# Altium footprint library PC110.PcbLib: 67 footprints (part 2 of 5)
Each footprint in its own frame and in the unit in brackets; x right, y up, seen from the top. Pads: shape width x height; smd on the part's side, far side on the other; paste and mask are expansions set on the pad; w line width, h text height; cw(c..) or ccw(c..) is an arc to the next point about the centre after c.
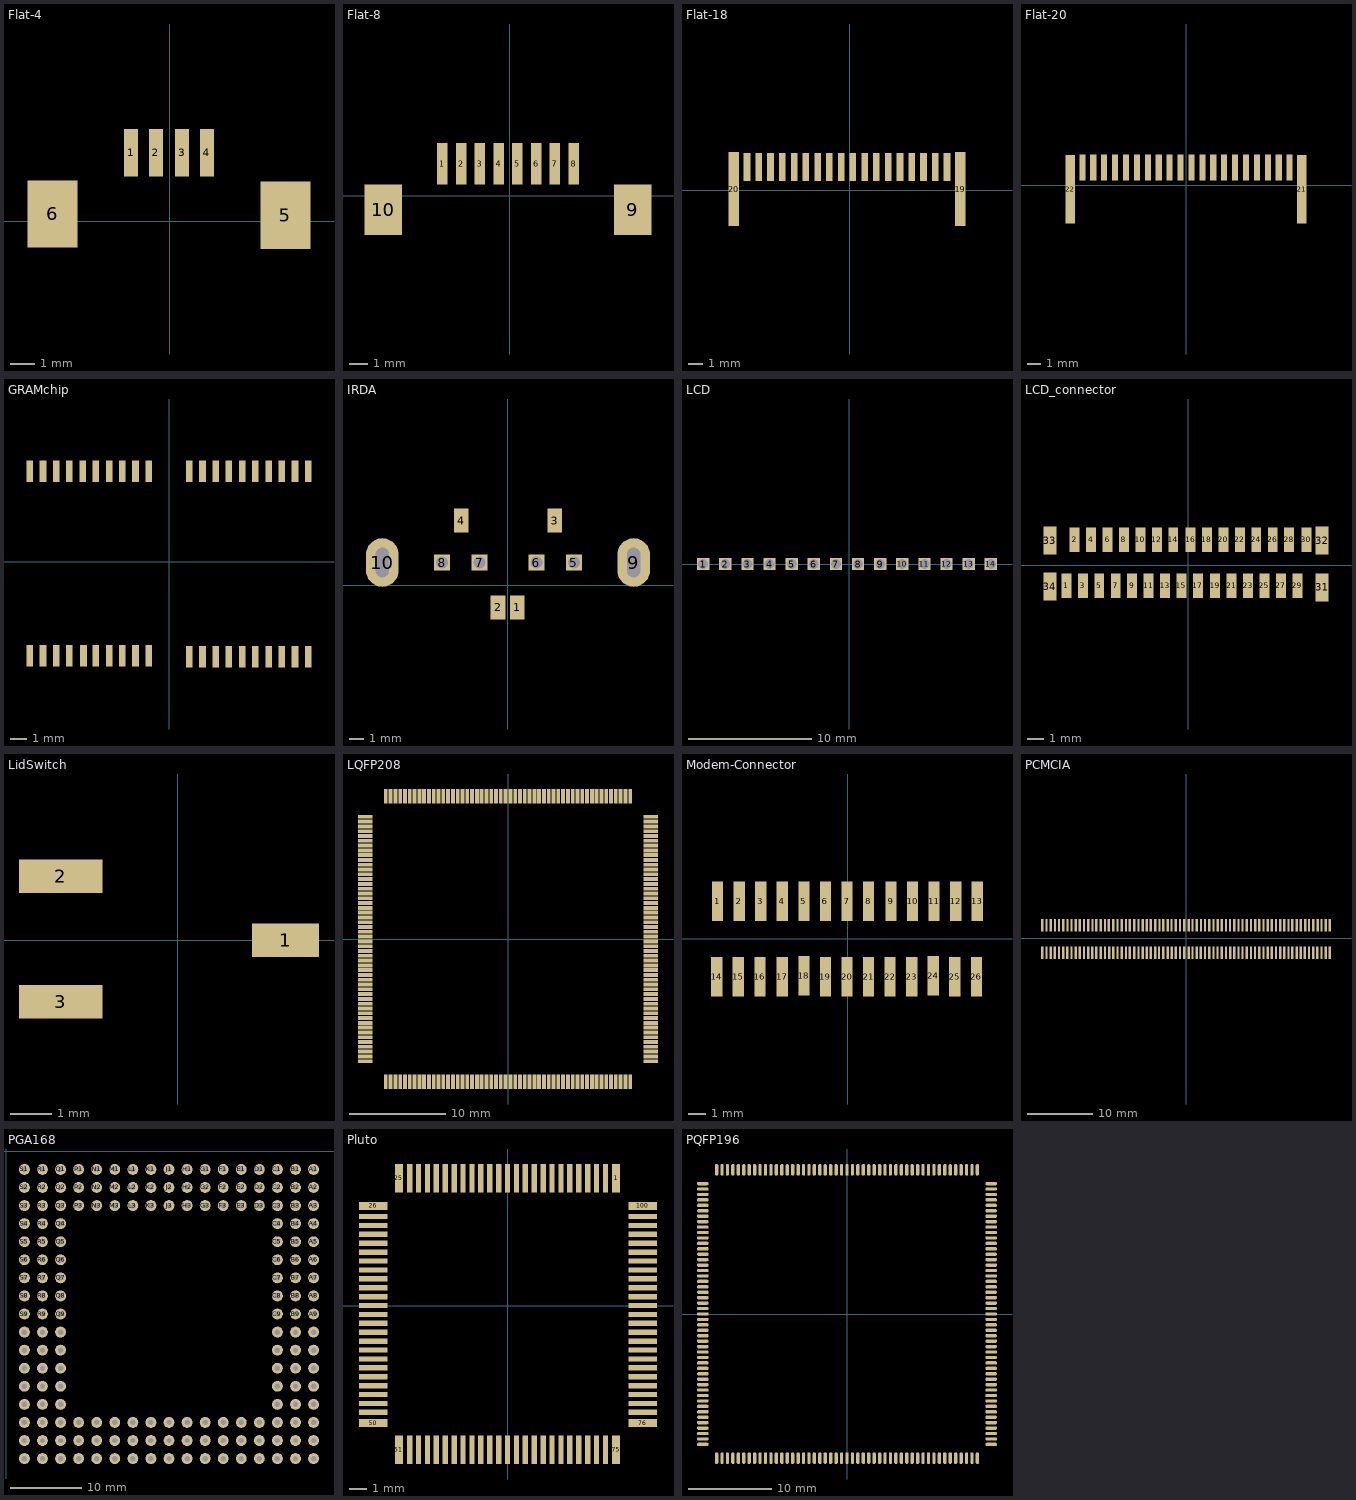
[diagram p1: the footprints below, top view; thin cyan lines are the x and y axes]

## Flat-4 [mm]
pads (6):
  rect 0.55x1.9 smd: 1(-1.55,2.75) 2(-0.55,2.75) 3(0.5,2.75) 4(1.5,2.75)
  rect 2x2.7 smd: 5(4.65,0.25) 6(-4.7,0.3)

## Flat-8 [mm]
pads (10):
  rect 0.55x2.2 smd: 1(-3.6,1.7) 2(-2.6,1.7) 3(-1.6,1.7) 4(-0.6,1.7) 5(0.4,1.7) 6(1.4,1.7) 7(2.4,1.7) 8(3.4,1.7)
  rect 2x2.7 smd: 9(6.55,-0.75) 10(-6.75,-0.75)

## Flat-18 [mm]
pads (20):
  rect 0.45x1.9 smd: 1(-7,1.6) 2(-6.2,1.6) 3(-5.4,1.6) 4(-4.6,1.6) 5(-3.8,1.6) 6(-3,1.6) 7(-2.2,1.6) 8(-1.4,1.6) 9(-0.6,1.6) 10(0.2,1.6) 11(1,1.6) 12(1.8,1.6) 13(2.6,1.6) 14(3.4,1.6) 15(4.2,1.6) 16(5,1.6) 17(5.8,1.6) 18(6.6,1.6)
  rect 0.7x5 smd: 19(7.5,0.1) 20(-7.9,0.1)

## Flat-20 [mm]
pads (22):
  rect 0.45x1.9 smd: 1(-7.6,1.3) 2(-6.8,1.3) 3(-6,1.3) 4(-5.2,1.3) 5(-4.4,1.3) 6(-3.6,1.3) 7(-2.8,1.3) 8(-2,1.3) 9(-1.2,1.3) 10(-0.4,1.3) 11(0.4,1.3) 12(1.2,1.3) 13(2,1.3) 14(2.8,1.3) 15(3.6,1.3) 16(4.4,1.3) 17(5.2,1.3) 18(6,1.3) 19(6.8,1.3) 20(7.6,1.3)
  rect 0.7x5 smd: 21(8.5,-0.3) 22(-8.5,-0.3)

## GRAMchip [mm]
pads (40):
  rect 0.4x1.3 smd: 1(8.4,5.45) 2(7.6,5.45) 3(6.8,5.45) 4(6,5.45) 5(5.2,5.45) 6(4.4,5.45) 7(3.6,5.45) 8(2.8,5.45) 9(2,5.45) 10(1.2,5.45) 11(-1.25,5.45) 12(-2.05,5.45) 13(-2.85,5.45) 14(-3.65,5.45) 15(-4.45,5.45) 16(-5.25,5.45) 17(-6.05,5.45) 18(-6.85,5.45) 19(-7.65,5.45) 20(-8.45,5.45) 21(-8.45,-5.7) 22(-7.65,-5.7) 23(-6.85,-5.7) 24(-6.05,-5.7) 25(-5.2,-5.7) 26(-4.45,-5.7) 27(-3.65,-5.7) 28(-2.85,-5.7) 29(-2.05,-5.7) 30(-1.25,-5.7) 31(1.2,-5.75) 32(2,-5.75) 33(2.8,-5.75) 34(3.6,-5.75) 35(4.4,-5.75) 36(5.2,-5.75) 37(6,-5.75) 38(6.8,-5.75) 39(7.6,-5.75) 40(8.4,-5.75)

## IRDA [mm]
pads (10):
  rect 1x1.6 smd: 1(0.65,-1.5) 2(-0.65,-1.5) 3(3.2,4.4) 4(-3.15,4.4)
  rect 1.1x1.1 hole 0.8: 5(4.5,1.55) 6(1.95,1.55) 7(-1.9,1.55) 8(-4.45,1.55)
  rrect100% 2.2x3.3 hole 0.9 slot 2 at 90 deg: 9(8.55,1.55) 10(-8.5,1.55)

## LCD [mm]
pads (14):
  rect 1x1 hole 0.8: 1(-11.9,0) 2(-10.1,0) 3(-8.3,0) 4(-6.5,0) 5(-4.7,0) 6(-2.9,0) 7(-1.1,0) 8(0.7,0) 9(2.5,0) 10(4.3,0) 11(6.1,0) 12(7.9,0) 13(9.7,0) 14(11.5,0)

## LCD_connector [mm]
pads (34):
  rect 0.6x1.5 smd: 1(-7.4,-1.25) 2(-6.9,1.55) 3(-6.4,-1.25) 4(-5.9,1.55) 5(-5.4,-1.25) 6(-4.9,1.55) 7(-4.4,-1.25) 8(-3.9,1.55) 9(-3.4,-1.25) 10(-2.9,1.55) 11(-2.4,-1.25) 12(-1.9,1.55) 13(-1.4,-1.25) 14(-0.9,1.55) 15(-0.4,-1.25) 16(0.15,1.55) 17(0.6,-1.25) 18(1.15,1.55) 19(1.65,-1.25) 20(2.15,1.55) 21(2.65,-1.25) 22(3.15,1.55) 23(3.65,-1.25) 24(4.15,1.55) 25(4.65,-1.25) 26(5.15,1.55) 27(5.65,-1.25) 28(6.15,1.55) 29(6.65,-1.25) 30(7.2,1.55)
  rect 0.8x1.7 smd: 31(8.15,-1.35) 32(8.15,1.5) 33(-8.4,1.5) 34(-8.4,-1.3)

## LidSwitch [mm]
pads (3):
  rect 1.6x0.8 smd: 1(2.575,0)
  rect 2x0.8 smd: 2(-2.8,1.525) 3(-2.8,-1.475)

## LOGO [mm]

## LQFP208 [mm]
pads (208):
  rect 1.5x0.4 smd: 1(-14.9,12.75) 2(-14.9,12.25) 3(-14.9,11.75) 4(-14.9,11.25) 5(-14.9,10.75) 6(-14.9,10.25) 7(-14.9,9.75) 8(-14.9,9.25) 9(-14.9,8.75) 10(-14.9,8.25) 11(-14.9,7.75) 12(-14.9,7.25) 13(-14.9,6.75) 14(-14.9,6.25) 15(-14.9,5.75) 16(-14.9,5.25) 17(-14.9,4.75) 18(-14.9,4.25) 19(-14.9,3.75) 20(-14.9,3.25) 21(-14.9,2.75) 22(-14.9,2.25) 23(-14.9,1.75) 24(-14.9,1.25) 25(-14.9,0.75) 26(-14.9,0.25) 27(-14.9,-0.25) 28(-14.9,-0.75) 29(-14.9,-1.25) 30(-14.9,-1.75) 31(-14.9,-2.25) 32(-14.9,-2.75) 33(-14.9,-3.25) 34(-14.9,-3.75) 35(-14.9,-4.25) 36(-14.9,-4.75) 37(-14.9,-5.25) 38(-14.9,-5.75) 39(-14.9,-6.25) 40(-14.9,-6.75) 41(-14.9,-7.25) 42(-14.9,-7.75) 43(-14.9,-8.25) 44(-14.9,-8.75) 45(-14.9,-9.25) 46(-14.9,-9.75) 47(-14.9,-10.25) 48(-14.9,-10.75) 49(-14.9,-11.25) 50(-14.9,-11.75) 51(-14.9,-12.25) 52(-14.9,-12.75) 105(14.9,-12.75) 106(14.9,-12.25) 107(14.9,-11.75) 108(14.9,-11.25) 109(14.9,-10.75) 110(14.9,-10.25) 111(14.9,-9.75) 112(14.9,-9.25) 113(14.9,-8.75) 114(14.9,-8.25) 115(14.9,-7.75) 116(14.9,-7.25) 117(14.9,-6.75) 118(14.9,-6.25) 119(14.9,-5.75) 120(14.9,-5.25) 121(14.9,-4.75) 122(14.9,-4.25) 123(14.9,-3.75) 124(14.9,-3.25) 125(14.9,-2.75) 126(14.9,-2.25) 127(14.9,-1.75) 128(14.9,-1.25) 129(14.9,-0.75) 130(14.9,-0.25) 131(14.9,0.25) 132(14.9,0.75) 133(14.9,1.25) 134(14.9,1.75) 135(14.9,2.25) 136(14.9,2.75) 137(14.9,3.25) 138(14.9,3.75) 139(14.9,4.25) 140(14.9,4.75) 141(14.9,5.25) 142(14.9,5.75) 143(14.9,6.25) 144(14.9,6.75) 145(14.9,7.25) 146(14.9,7.75) 147(14.9,8.25) 148(14.9,8.75) 149(14.9,9.25) 150(14.9,9.75) 151(14.9,10.25) 152(14.9,10.75) 153(14.9,11.25) 154(14.9,11.75) 155(14.9,12.25) 156(14.9,12.75)
  rect 0.4x1.5 smd: 53(-12.75,-14.9) 54(-12.25,-14.9) 55(-11.75,-14.9) 56(-11.25,-14.9) 57(-10.75,-14.9) 58(-10.25,-14.9) 59(-9.75,-14.9) 60(-9.25,-14.9) 61(-8.75,-14.9) 62(-8.25,-14.9) 63(-7.75,-14.9) 64(-7.25,-14.9) 65(-6.75,-14.9) 66(-6.25,-14.9) 67(-5.75,-14.9) 68(-5.25,-14.9) 69(-4.75,-14.9) 70(-4.25,-14.9) 71(-3.75,-14.9) 72(-3.25,-14.9) 73(-2.75,-14.9) 74(-2.25,-14.9) 75(-1.75,-14.9) 76(-1.25,-14.9) 77(-0.75,-14.9) 78(-0.25,-14.9) 79(0.25,-14.9) 80(0.75,-14.9) 81(1.25,-14.9) 82(1.75,-14.9) 83(2.25,-14.9) 84(2.75,-14.9) 85(3.25,-14.9) 86(3.75,-14.9) 87(4.25,-14.9) 88(4.75,-14.9) 89(5.25,-14.9) 90(5.75,-14.9) 91(6.25,-14.9) 92(6.75,-14.9) 93(7.25,-14.9) 94(7.75,-14.9) 95(8.25,-14.9) 96(8.75,-14.9) 97(9.25,-14.9) 98(9.75,-14.9) 99(10.25,-14.9) 100(10.75,-14.9) 101(11.25,-14.9) 102(11.75,-14.9) 103(12.25,-14.9) 104(12.75,-14.9) 157(12.75,14.9) 158(12.25,14.9) 159(11.75,14.9) 160(11.25,14.9) 161(10.75,14.9) 162(10.25,14.9) 163(9.75,14.9) 164(9.25,14.9) 165(8.75,14.9) 166(8.25,14.9) 167(7.75,14.9) 168(7.25,14.9) 169(6.75,14.9) 170(6.25,14.9) 171(5.75,14.9) 172(5.25,14.9) 173(4.75,14.9) 174(4.25,14.9) 175(3.75,14.9) 176(3.25,14.9) 177(2.75,14.9) 178(2.25,14.9) 179(1.75,14.9) 180(1.25,14.9) 181(0.75,14.9) 182(0.25,14.9) 183(-0.25,14.9) 184(-0.75,14.9) 185(-1.25,14.9) 186(-1.75,14.9) 187(-2.25,14.9) 188(-2.75,14.9) 189(-3.25,14.9) 190(-3.75,14.9) 191(-4.25,14.9) 192(-4.75,14.9) 193(-5.25,14.9) 194(-5.75,14.9) 195(-6.25,14.9) 196(-6.75,14.9) 197(-7.25,14.9) 198(-7.75,14.9) 199(-8.25,14.9) 200(-8.75,14.9) 201(-9.25,14.9) 202(-9.75,14.9) 203(-10.25,14.9) 204(-10.75,14.9) 205(-11.25,14.9) 206(-11.75,14.9) 207(-12.25,14.9) 208(-12.75,14.9)

## Modem-Connector [mm]
pads (26):
  rect 0.65x2.286 smd: 1(-7.55,2.15) 2(-6.3,2.15) 3(-5.05,2.15) 4(-3.8,2.15) 5(-2.55,2.15) 6(-1.3,2.15) 7(-0.05,2.15) 8(1.2,2.15) 9(2.5,2.15) 10(3.75,2.15) 11(5,2.15) 12(6.25,2.15) 13(7.5,2.15) 14(-7.6,-2.2) 15(-6.35,-2.2) 16(-5.1,-2.2) 17(-3.8,-2.2) 18(-2.55,-2.15) 19(-1.3,-2.2) 20(-0.05,-2.2) 21(1.2,-2.2) 22(2.45,-2.2) 23(3.7,-2.2) 24(4.95,-2.15) 25(6.2,-2.2) 26(7.45,-2.2)

## PCMCIA [mm]
pads (140):
  rect 0.35x1.9 smd: 1(-21.95,2) 2(-21.3,2) 3(-20.65,2) 4(-20,2) 5(-19.4,2) 6(-18.75,2) 7(-18.1,2) 8(-17.5,2) 9(-16.85,2) 10(-16.25,2) 11(-15.6,2) 12(-14.95,2) 13(-14.3,2) 14(-13.7,2) 15(-13.05,2) 16(-12.4,2) 17(-11.8,2) 18(-11.15,2) 19(-10.5,2) 20(-9.85,2) 21(-9.2,2) 22(-8.6,2) 23(-7.95,2) 24(-7.3,2) 25(-6.65,2) 26(-6.05,2) 27(-5.4,2) 28(-4.75,2) 29(-4.1,2) 30(-3.5,2) 31(-2.85,2) 32(-2.25,2) 33(-1.6,2) 34(-0.95,2) 35(-0.3,2) 36(0.35,2) 37(0.95,2) 38(1.6,2) 39(2.25,2) 40(2.85,2) 41(3.5,2) 42(4.15,2) 43(4.8,2) 44(5.4,2) 45(6.05,2) 46(6.65,2) 47(7.3,2) 48(7.95,2) 49(8.55,2) 50(9.2,2) 51(9.85,2) 52(10.5,2) 53(11.1,2) 54(11.75,2) 55(12.4,2) 56(13,2) 57(13.65,2) 58(14.3,2) 59(14.9,2) 60(15.55,2) 61(16.15,2) 62(16.8,2) 63(17.45,2) 64(18.1,2) 65(18.7,2) 66(19.35,2) 67(20,2) 68(20.6,2) 69(21.25,2) 70(21.85,2) 71(-21.95,-2.25) 72(-21.3,-2.25) 73(-20.65,-2.25) 74(-20.05,-2.25) 75(-19.4,-2.25) 76(-18.75,-2.25) 77(-18.15,-2.25) 78(-17.5,-2.25) 79(-16.85,-2.25) 80(-16.25,-2.25) 81(-15.6,-2.25) 82(-14.95,-2.25) 83(-14.35,-2.25) 84(-13.7,-2.25) 85(-13.05,-2.25) 86(-12.4,-2.25) 87(-11.75,-2.25) 88(-11.15,-2.25) 89(-10.5,-2.25) 90(-9.85,-2.25) 91(-9.2,-2.25) 92(-8.6,-2.25) 93(-7.95,-2.25) 94(-7.3,-2.25) 95(-6.65,-2.25) 96(-6.05,-2.25) 97(-5.4,-2.25) 98(-4.75,-2.25) 99(-4.15,-2.25) 100(-3.5,-2.25) 101(-2.85,-2.25) 102(-2.2,-2.25) 103(-1.6,-2.25) 104(-0.95,-2.25) 105(-0.3,-2.25) 106(0.35,-2.25) 107(0.95,-2.25) 108(1.6,-2.25) 109(2.2,-2.25) 110(2.85,-2.25) 111(3.5,-2.25) 112(4.15,-2.25) 113(4.75,-2.25) 114(5.4,-2.25) 115(6.05,-2.25) 116(6.7,-2.25) 117(7.3,-2.25) 118(7.95,-2.25) 119(8.55,-2.25) 120(9.2,-2.25) 121(9.85,-2.25) 122(10.45,-2.25) 123(11.1,-2.25) 124(11.75,-2.25) 125(12.4,-2.25) 126(13,-2.25) 127(13.65,-2.25) 128(14.3,-2.25) 129(14.9,-2.25) 130(15.55,-2.25) 131(16.15,-2.25) 132(16.8,-2.25) 133(17.45,-2.25) 134(18.05,-2.25) 135(18.7,-2.25) 136(19.35,-2.25) 137(19.95,-2.25) 138(20.6,-2.25) 139(21.25,-2.25) 140(21.85,-2.25)

## PGA168 [mil]
pads (168):
  round 60 hole 30: A1(1700,-100) A2(1700,-200) A3(1700,-300) A4(1700,-400) A5(1700,-500) A6(1700,-600) A7(1700,-700) A8(1700,-800) A9(1700,-900) A10(1700,-1000) A11(1700,-1100) A12(1700,-1200) A13(1700,-1300) A14(1700,-1400) A15(1700,-1500) A16(1700,-1600) A17(1700,-1700) B1(1600,-100) B2(1600,-200) B3(1600,-300) B4(1600,-400) B5(1600,-500) B6(1600,-600) B7(1600,-700) B8(1600,-800) B9(1600,-900) B10(1600,-1000) B11(1600,-1100) B12(1600,-1200) B13(1600,-1300) B14(1600,-1400) B15(1600,-1500) B16(1600,-1600) B17(1600,-1700) C1(1500,-100) C2(1500,-200) C3(1500,-300) C4(1500,-400) C5(1500,-500) C6(1500,-600) C7(1500,-700) C8(1500,-800) C9(1500,-900) C10(1500,-1000) C11(1500,-1100) C12(1500,-1200) C13(1500,-1300) C14(1500,-1400) C15(1500,-1500) C16(1500,-1600) C17(1500,-1700) D1(1400,-100) D2(1400,-200) D3(1400,-300) D15(1400,-1500) D16(1400,-1600) D17(1400,-1700) E1(1300,-100) E2(1300,-200) E3(1300,-300) E15(1300,-1500) E16(1300,-1600) E17(1300,-1700) F1(1200,-100) F2(1200,-200) F3(1200,-300) F15(1200,-1500) F16(1200,-1600) F17(1200,-1700) G1(1100,-100) G2(1100,-200) G3(1100,-300) G15(1100,-1500) G16(1100,-1600) G17(1100,-1700) H1(1000,-100) H2(1000,-200) H3(1000,-300) H15(1000,-1500) H16(1000,-1600) H17(1000,-1700) J1(900,-100) J2(900,-200) J3(900,-300) J15(900,-1500) J16(900,-1600) J17(900,-1700) K1(800,-100) K2(800,-200) K3(800,-300) K15(800,-1500) K16(800,-1600) K17(800,-1700) L1(700,-100) L2(700,-200) L3(700,-300) L15(700,-1500) L16(700,-1600) L17(700,-1700) M1(600,-100) M2(600,-200) M3(600,-300) M15(600,-1500) M16(600,-1600) M17(600,-1700) N1(500,-100) N2(500,-200) N3(500,-300) N15(500,-1500) N16(500,-1600) N17(500,-1700) P1(400,-100) P2(400,-200) P3(400,-300) P15(400,-1500) P16(400,-1600) P17(400,-1700) Q1(300,-100) Q2(300,-200) Q3(300,-300) Q4(300,-400) Q5(300,-500) Q6(300,-600) Q7(300,-700) Q8(300,-800) Q9(300,-900) Q10(300,-1000) Q11(300,-1100) Q12(300,-1200) Q13(300,-1300) Q14(300,-1400) Q15(300,-1500) Q16(300,-1600) Q17(300,-1700) R1(200,-100) R2(200,-200) R3(200,-300) R4(200,-400) R5(200,-500) R6(200,-600) R7(200,-700) R8(200,-800) R9(200,-900) R10(200,-1000) R11(200,-1100) R12(200,-1200) R13(200,-1300) R14(200,-1400) R15(200,-1500) R16(200,-1600) R17(200,-1700) S1(100,-100) S2(100,-200) S3(100,-300) S4(100,-400) S5(100,-500) S6(100,-600) S7(100,-700) S8(100,-800) S9(100,-900) S10(100,-1000) S11(100,-1100) S12(100,-1200) S13(100,-1300) S14(100,-1400) S15(100,-1500) S16(100,-1600) S17(100,-1700)

## Pluto [mm]
pads (100):
  rect 0.45x1.6 smd: 1(6.1,7.15) 25(-6.1,7.15) 51(-6.1,-8.1) 75(6.1,-8.1)
  rect 0.3x1.6 smd: 2(5.5,7.15) 3(5,7.15) 4(4.5,7.15) 5(4,7.15) 6(3.5,7.15) 7(3,7.15) 8(2.5,7.15) 9(2,7.15) 10(1.5,7.15) 11(1,7.15) 12(0.5,7.15) 13(0,7.15) 14(-0.5,7.15) 15(-1,7.15) 16(-1.5,7.15) 17(-2,7.15) 18(-2.5,7.15) 19(-3,7.15) 20(-3.5,7.15) 21(-4,7.15) 22(-4.5,7.15) 23(-5,7.15) 24(-5.5,7.15) 52(-5.5,-8.1) 53(-5,-8.1) 54(-4.5,-8.1) 55(-4,-8.1) 56(-3.5,-8.1) 57(-3,-8.1) 58(-2.5,-8.1) 59(-2,-8.1) 60(-1.5,-8.1) 61(-1,-8.1) 62(-0.5,-8.1) 63(0,-8.1) 64(0.5,-8.1) 65(1,-8.1) 66(1.5,-8.1) 67(2,-8.1) 68(2.5,-8.1) 69(3,-8.1) 70(3.5,-8.1) 71(4,-8.1) 72(4.5,-8.1) 73(5,-8.1) 74(5.5,-8.1)
  rect 1.6x0.45 smd: 26(-7.55,5.6) 50(-7.55,-6.6) 76(7.6,-6.6) 100(7.6,5.6)
  rect 1.6x0.3 smd: 27(-7.55,5) 28(-7.55,4.5) 29(-7.55,4) 30(-7.55,3.5) 31(-7.55,3) 32(-7.55,2.5) 33(-7.55,2) 34(-7.55,1.5) 35(-7.55,1) 36(-7.55,0.5) 37(-7.55,0) 38(-7.55,-0.5) 39(-7.55,-1) 40(-7.55,-1.5) 41(-7.55,-2) 42(-7.55,-2.5) 43(-7.55,-3) 44(-7.55,-3.5) 45(-7.55,-4) 46(-7.55,-4.5) 47(-7.55,-5) 48(-7.55,-5.5) 49(-7.55,-6) 77(7.6,-6) 78(7.6,-5.5) 79(7.6,-5) 80(7.6,-4.5) 81(7.6,-4) 82(7.6,-3.5) 83(7.6,-3) 84(7.6,-2.5) 85(7.6,-2) 86(7.6,-1.5) 87(7.6,-1) 88(7.6,-0.5) 89(7.6,0) 90(7.6,0.5) 91(7.6,1) 92(7.6,1.5) 93(7.6,2) 94(7.6,2.5) 95(7.6,3) 96(7.6,3.5) 97(7.6,4) 98(7.6,4.5) 99(7.6,5)

## PQFP196 [mm]
pads (196):
  rrect100% 1.4x0.4 smd: 1(-17.245,15.6) 2(-17.245,14.95) 3(-17.245,14.3) 4(-17.245,13.65) 5(-17.245,13) 6(-17.245,12.35) 7(-17.245,11.7) 8(-17.245,11.05) 9(-17.245,10.4) 10(-17.245,9.75) 11(-17.245,9.1) 12(-17.245,8.45) 13(-17.245,7.8) 14(-17.245,7.15) 15(-17.245,6.5) 16(-17.245,5.85) 17(-17.245,5.2) 18(-17.245,4.55) 19(-17.245,3.9) 20(-17.245,3.25) 21(-17.245,2.6) 22(-17.245,1.95) 23(-17.245,1.3) 24(-17.245,0.65) 25(-17.245,0) 26(-17.245,-0.65) 27(-17.245,-1.3) 28(-17.245,-1.95) 29(-17.245,-2.6) 30(-17.245,-3.25) 31(-17.245,-3.9) 32(-17.245,-4.55) 33(-17.245,-5.2) 34(-17.245,-5.85) 35(-17.245,-6.5) 36(-17.245,-7.15) 37(-17.245,-7.8) 38(-17.245,-8.45) 39(-17.245,-9.1) 40(-17.245,-9.75) 41(-17.245,-10.4) 42(-17.245,-11.05) 43(-17.245,-11.7) 44(-17.245,-12.35) 45(-17.245,-13) 46(-17.245,-13.65) 47(-17.245,-14.3) 48(-17.245,-14.95) 49(-17.245,-15.6) 99(17.245,-15.6) 100(17.245,-14.95) 101(17.245,-14.3) 102(17.245,-13.65) 103(17.245,-13) 104(17.245,-12.35) 105(17.245,-11.7) 106(17.245,-11.05) 107(17.245,-10.4) 108(17.245,-9.75) 109(17.245,-9.1) 110(17.245,-8.45) 111(17.245,-7.8) 112(17.245,-7.15) 113(17.245,-6.5) 114(17.245,-5.85) 115(17.245,-5.2) 116(17.245,-4.55) 117(17.245,-3.9) 118(17.245,-3.25) 119(17.245,-2.6) 120(17.245,-1.95) 121(17.245,-1.3) 122(17.245,-0.65) 123(17.245,0) 124(17.245,0.65) 125(17.245,1.3) 126(17.245,1.95) 127(17.245,2.6) 128(17.245,3.25) 129(17.245,3.9) 130(17.245,4.55) 131(17.245,5.2) 132(17.245,5.85) 133(17.245,6.5) 134(17.245,7.15) 135(17.245,7.8) 136(17.245,8.45) 137(17.245,9.1) 138(17.245,9.75) 139(17.245,10.4) 140(17.245,11.05) 141(17.245,11.7) 142(17.245,12.35) 143(17.245,13) 144(17.245,13.65) 145(17.245,14.3) 146(17.245,14.95) 147(17.245,15.6)
  rrect100% 0.4x1.4 smd: 50(-15.6,-17.245) 51(-14.95,-17.245) 52(-14.3,-17.245) 53(-13.65,-17.245) 54(-13,-17.245) 55(-12.35,-17.245) 56(-11.7,-17.245) 57(-11.05,-17.245) 58(-10.4,-17.245) 59(-9.75,-17.245) 60(-9.1,-17.245) 61(-8.45,-17.245) 62(-7.8,-17.245) 63(-7.15,-17.245) 64(-6.5,-17.245) 65(-5.85,-17.245) 66(-5.2,-17.245) 67(-4.55,-17.245) 68(-3.9,-17.245) 69(-3.25,-17.245) 70(-2.6,-17.245) 71(-1.95,-17.245) 72(-1.3,-17.245) 73(-0.65,-17.245) 74(0,-17.245) 75(0.65,-17.245) 76(1.3,-17.245) 77(1.95,-17.245) 78(2.6,-17.245) 79(3.25,-17.245) 80(3.9,-17.245) 81(4.55,-17.245) 82(5.2,-17.245) 83(5.85,-17.245) 84(6.5,-17.245) 85(7.15,-17.245) 86(7.8,-17.245) 87(8.45,-17.245) 88(9.1,-17.245) 89(9.75,-17.245) 90(10.4,-17.245) 91(11.05,-17.245) 92(11.7,-17.245) 93(12.35,-17.245) 94(13,-17.245) 95(13.65,-17.245) 96(14.3,-17.245) 97(14.95,-17.245) 98(15.6,-17.245) 148(15.6,17.245) 149(14.95,17.245) 150(14.3,17.245) 151(13.65,17.245) 152(13,17.245) 153(12.35,17.245) 154(11.7,17.245) 155(11.05,17.245) 156(10.4,17.245) 157(9.75,17.245) 158(9.1,17.245) 159(8.45,17.245) 160(7.8,17.245) 161(7.15,17.245) 162(6.5,17.245) 163(5.85,17.245) 164(5.2,17.245) 165(4.55,17.245) 166(3.9,17.245) 167(3.25,17.245) 168(2.6,17.245) 169(1.95,17.245) 170(1.3,17.245) 171(0.65,17.245) 172(0,17.245) 173(-0.65,17.245) 174(-1.3,17.245) 175(-1.95,17.245) 176(-2.6,17.245) 177(-3.25,17.245) 178(-3.9,17.245) 179(-4.55,17.245) 180(-5.2,17.245) 181(-5.85,17.245) 182(-6.5,17.245) 183(-7.15,17.245) 184(-7.8,17.245) 185(-8.45,17.245) 186(-9.1,17.245) 187(-9.75,17.245) 188(-10.4,17.245) 189(-11.05,17.245) 190(-11.7,17.245) 191(-12.35,17.245) 192(-13,17.245) 193(-13.65,17.245) 194(-14.3,17.245) 195(-14.95,17.245) 196(-15.6,17.245)